# EAGLE library part GUMSTIX_SUMMIT_SV1 (library Robot)
Expansion connector of the Summit daughterboard for Gumstix Overo COMs
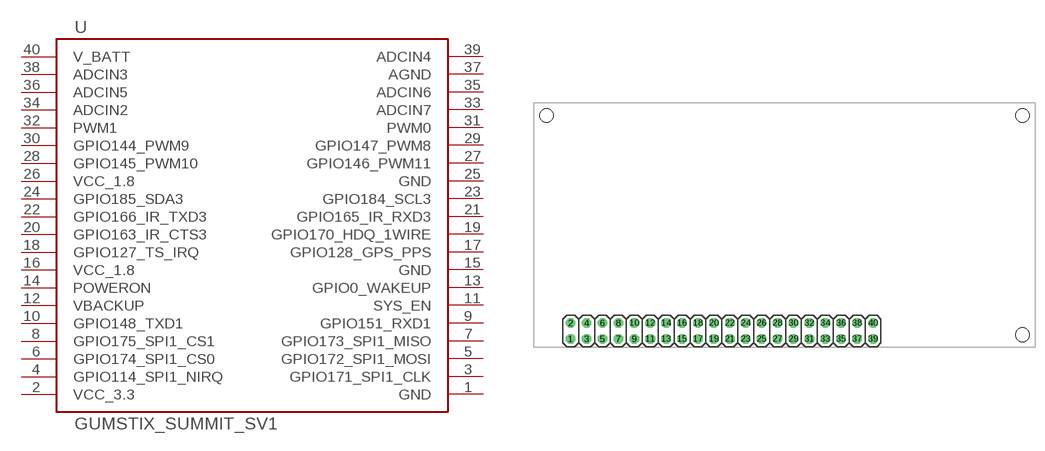
[diagram p2: symbol with the pads of GUMSTIX_SUMMIT_SV1; footprint GUMSTIX_SUMMIT_SV1]

Designator prefix -

## GUMSTIX_SUMMIT_SV1_2X20  [GUMSTIX_SUMMIT_SV1]
1  GND  pwr
2  VCC_3.3  pwr
3  GPIO171_SPI1_CLK  out
4  GPIO114_SPI1_NIRQ
5  GPIO172_SPI1_MOSI  out
6  GPIO174_SPI1_CS0  out
7  GPIO173_SPI1_MISO  in
8  GPIO175_SPI1_CS1  out
9  GPIO151_RXD1
10  GPIO148_TXD1
11  SYS_EN
12  VBACKUP  pwr
13  GPIO0_WAKEUP
14  POWERON
15  GND  pwr
16  VCC_1.8  pwr
17  GPIO128_GPS_PPS
18  GPIO127_TS_IRQ
19  GPIO170_HDQ_1WIRE
20  GPIO163_IR_CTS3
21  GPIO165_IR_RXD3
22  GPIO166_IR_TXD3
23  GPIO184_SCL3
24  GPIO185_SDA3
25  GND  pwr
26  VCC_1.8  pwr
27  GPIO146_PWM11  out
28  GPIO145_PWM10  out
29  GPIO147_PWM8  out
30  GPIO144_PWM9  out
31  PWM0  out
32  PWM1  out
33  ADCIN7  in
34  ADCIN2  in
35  ADCIN6  in
36  ADCIN5  in
37  AGND  pwr
38  ADCIN3  in
39  ADCIN4  in
40  V_BATT  pwr

## Footprint GUMSTIX_SUMMIT_SV1 (pad centres in mm)
PIN HEADER (2X20, 0.1" spaced, 8mil silkscreen)
drill 1.016 octagon: 1 -34.13,-17.67; 2 -34.13,-15.13; 3 -31.59,-17.67; 4 -31.59,-15.13; 5 -29.05,-17.67; 6 -29.05,-15.13; 7 -26.51,-17.67; 8 -26.51,-15.13; 9 -23.97,-17.67; 10 -23.97,-15.13; 11 -21.43,-17.67; 12 -21.43,-15.13; 13 -18.89,-17.67; 14 -18.89,-15.13; 15 -16.35,-17.67; 16 -16.35,-15.13; 17 -13.81,-17.67; 18 -13.81,-15.13; 19 -11.27,-17.67; 20 -11.27,-15.13; 21 -8.73,-17.67; 22 -8.73,-15.13; 23 -6.19,-17.67; 24 -6.19,-15.13; 25 -3.65,-17.67; 26 -3.65,-15.13; 27 -1.11,-17.67; 28 -1.11,-15.13; 29 1.43,-17.67; 30 1.43,-15.13; 31 3.97,-17.67; 32 3.97,-15.13; 33 6.51,-17.67; 34 6.51,-15.13; 35 9.05,-17.67; 36 9.05,-15.13; 37 11.59,-17.67; 38 11.59,-15.13; 39 14.13,-17.67; 40 14.13,-15.13
hole 2.2 at 38,-17
hole 2.2 at 38,18
hole 2.2 at -38,18